# EAGLE library part MCW1001A (library X893)
http://www.microchip.com/wwwproducts/Devices.aspx?dDocName=en555844
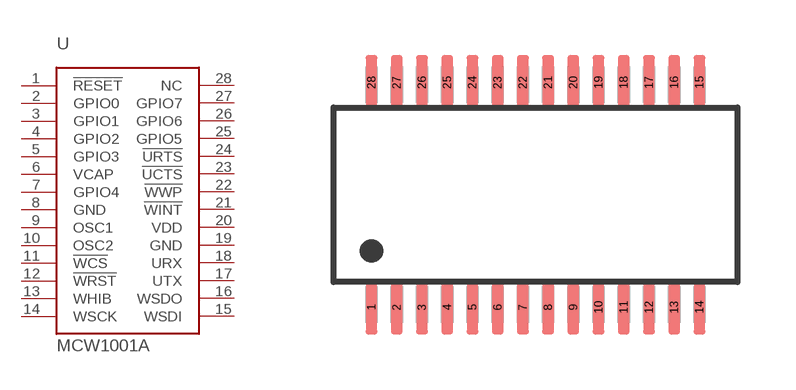
[diagram p150: symbol with the pads of SSOP28DB; footprint SSOP28DB]

Designator prefix U

## MCW1001A  [SSOP28DB]
1  !RESET
2  GPIO0
3  GPIO1
4  GPIO2
5  GPIO3
6  VCAP
7  GPIO4
8  GND  pwr
9  OSC1
10  OSC2
11  !WCS
12  !WRST
13  WHIB
14  WSCK
15  WSDI
16  WSDO
17  UTX
18  URX
19  GND
20  VDD
21  !WINT
22  !WWP
23  !UCTS
24  !URTS
25  GPIO5
26  GPIO6
27  GPIO7
28  NC  nc

## Footprint SSOP28DB (pad centres in mm)
Small Shrink Outline Package
smd 0.3 x 1.4: 1 -4.225,-2.9; 2 -3.575,-2.9; 3 -2.925,-2.9; 4 -2.275,-2.9; 5 -1.625,-2.9; 6 -0.975,-2.9; 7 -0.325,-2.9; 8 0.325,-2.9; 9 0.975,-2.9; 10 1.625,-2.9; 11 2.275,-2.9; 12 2.925,-2.9; 13 3.575,-2.9; 14 4.225,-2.9; 15 4.225,2.9; 16 3.575,2.9; 17 2.925,2.9; 18 2.275,2.9; 19 1.625,2.9; 20 0.975,2.9; 21 0.325,2.9; 22 -0.325,2.9; 23 -0.975,2.9; 24 -1.625,2.9; 25 -2.275,2.9; 26 -2.925,2.9; 27 -3.575,2.9; 28 -4.225,2.9